# Altium footprint library 无刷驱动-CYT4BB7-V1.0.1.PcbLib: 34 footprints (part 2 of 3)
Each footprint in its own frame and in the unit in brackets; x right, y up, seen from the top. Pads: shape width x height; smd on the part's side, far side on the other; paste and mask are expansions set on the pad; w line width, h text height; cw(c..) or ccw(c..) is an arc to the next point about the centre after c.
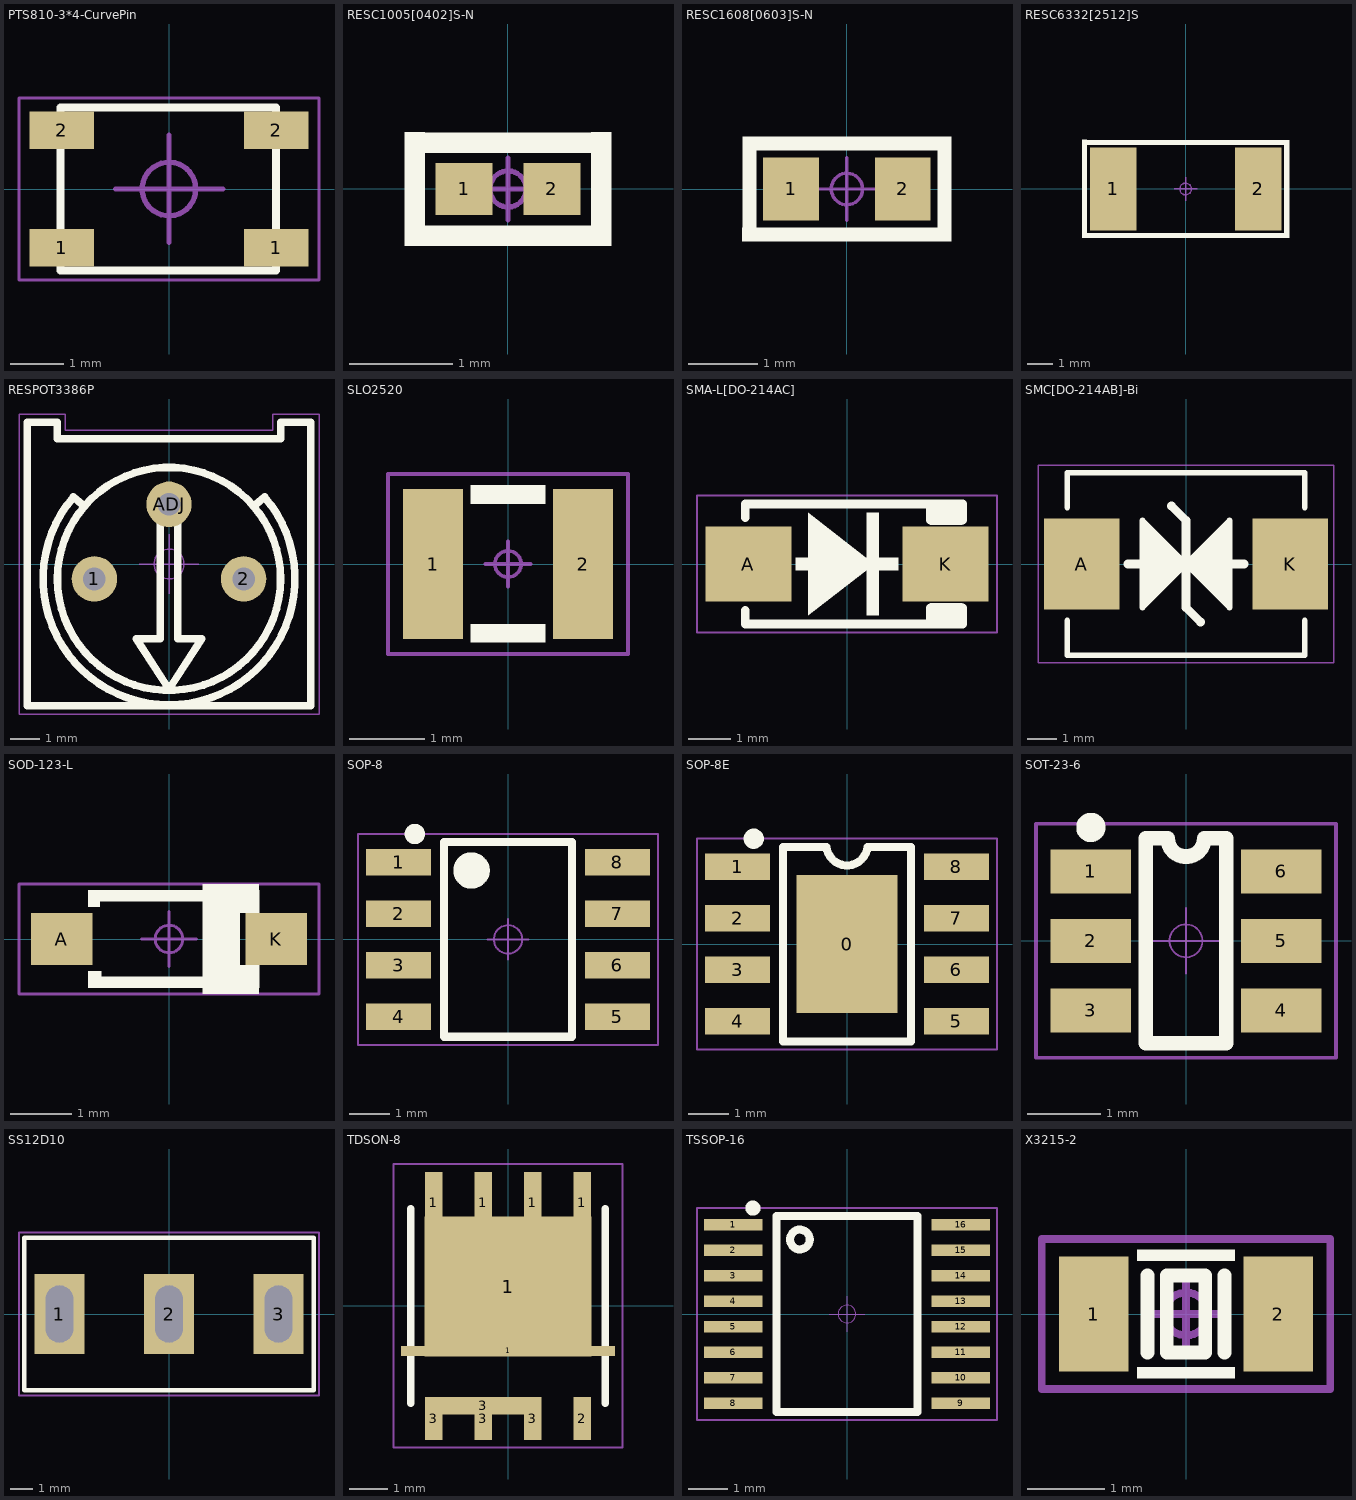
[diagram p1: the footprints below, top view; thin cyan lines are the x and y axes]

## PTS810-3*4-CurvePin [mm] "3*4 白色 汽车遥控器贴片按键 包脚"
height 4.32
pads (4):
  rect 1.2x0.7 smd: 1(-2,-1.1) 1(2,-1.1) 2(-2,1.1) 2(2,1.1)
Top Overlay:
  lines w0.152: -2.025,-1.524 2,-1.524 2,1.524 -2.025,1.524 -2.025,-1.524
Top Designator:
  text ".Designator" at -2.25,-0.226 h1
Top Component Outline:
  lines w0.05: -2.8,-1.7 -2.8,1.7 2.8,1.7 2.8,-1.7 -2.8,-1.7
Top Component Center:
  circle w0.1: c0,0 r0.5
  lines w0.1: -1,0 1,0 ; 0,-1 0,1
3D body "User Library-PTS810.STEP": height 2.5, standoff 0, extent -2.301,-1.6 2.299,1.6

## RESC1005[0402]S-N [mm] "0402贴片电阻 有丝印 2脚 1.00x0.50mm IPC中密度"
height 0.6
pads (2):
  rect 0.55x0.5 smd: 1(-0.425,0) 2(0.425,0)
Top Overlay:
  region: 1,-0.547 1,0.553 0.8,0.553 0.8,-0.547
  rectangle: -1,-0.553 1,-0.353
  region: -1,0.553 -1,-0.547 -0.8,-0.547 -0.8,0.553
  rectangle: -1,0.347 1,0.547
Top Designator:
  text ".Designator" at -2.25,-0.226 h1
Top Component Outline:
  rectangle: -0.95,-0.5 -0.9,0.5
  region: 0.95,0.45 0.95,0.5 -0.95,0.5 -0.95,0.45
  region: 0.95,0.5 0.9,0.5 0.9,-0.5 0.95,-0.5
  region: -0.95,-0.45 -0.95,-0.5 0.95,-0.5 0.95,-0.45
Top Component Center:
  circle w0.05: c0,0 r0.175
  lines w0.05: -0.3,0 0.3,0 ; 0,-0.3 0,0.3
3D body "R0402.STEP": height 0.35, standoff 0, extent -0.5,-0.25 0.5,0.25

## RESC1608[0603]S-N [mm] "0603贴片电阻 有丝印 2脚 1.60x0.80mm IPC中密度"
height 0.6
pads (2):
  rect 0.8x0.9 smd: 1(-0.8,0) 2(0.8,0)
Top Overlay:
  rectangle: -1.502,-0.75 1.498,-0.55
  rectangle: -1.5,0.55 1.5,0.75
  region: -1.499,0.75 -1.499,-0.75 -1.299,-0.75 -1.299,0.75
  region: 1.5,-0.749 1.5,0.751 1.3,0.751 1.3,-0.749
Top Designator:
  text ".Designator" at -2.25,-0.226 h1
Top Component Outline:
  region: -1.45,-0.65 -1.45,-0.7 1.45,-0.7 1.45,-0.65
  region: 1.45,0.7 1.4,0.7 1.4,-0.7 1.45,-0.7
  region: 1.45,0.65 1.45,0.7 -1.45,0.7 -1.45,0.65
  rectangle: -1.45,-0.7 -1.4,0.7
Top Component Center:
  circle w0.05: c0,0 r0.225
  lines w0.05: -0.45,0 0.45,0 ; 0,-0.45 0,0.45
3D body "R0603.STEP": height 0.45, standoff 0, extent -0.8,-0.4 0.8,0.4

## RESC6332[2512]S [mm] "2512贴片电阻 有丝印 2脚 6.30x3.20mm IPC中密度"
height 0.71
pads (2):
  rect 1.8x3.2 smd: 1(-2.8,0) 2(2.8,0)
Top Overlay:
  region: 4,-1.7 -4,-1.7 -4,-1.9 4,-1.9
  region: 4,-1.9 4,1.9 3.8,1.9 3.8,-1.9
  rectangle: -4,1.7 3.95,1.9
  region: -4,1.9 -4,-1.85 -3.8,-1.85 -3.8,1.9
Top Designator:
  text ".Designator" at -2.25,-0.226 h1
Top Component Outline:
  rectangle: -3.95,-1.85 -3.9,1.85
  region: 3.95,1.8 3.95,1.85 -3.95,1.85 -3.95,1.8
  region: 3.95,1.85 3.9,1.85 3.9,-1.85 3.95,-1.85
  region: -3.95,-1.8 -3.95,-1.85 3.95,-1.85 3.95,-1.8
Top Component Center:
  circle w0.05: c0,0 r0.225
  lines w0.05: -0.45,0 0.45,0 ; 0,-0.45 0,0.45
3D body: height 0.61, standoff 0, extent -2.625,-1.675 2.625,1.675
3D body: height 0.71, standoff 0, extent -3.225,-1.675 -2.625,1.675
3D body: height 0.71, standoff 0, extent 2.625,-1.675 3.225,1.675
3D body: height 0.71, standoff 0.61, extent -2.625,-1.675 2.625,1.675

## RESPOT3386P [mil] "3386P型 单圈带柄电位器"
height 62.99
pads (3):
  round 60 hole 30: 1(-98.43,-19.68) 2(98.43,-19.68) ADJ(0,78.74)
Top Overlay:
  circle w10: c0,-19.68 r147.1
  lines w10: -114.45,78.42 -126.12,88.42 ccw(c0,-19.68) 126.12,88.42 114.45,78.42 ; -187.01,-187.01 -187.01,187.01 -147.64,187.01 -147.64,165.35 147.64,165.35 147.64,187.01 187.01,187.01 187.01,-187.01 -187.01,-187.01 ; -43.31,-98.43 0,-165.35 43.31,-98.43 11.81,-98.43 11.81,59.06 -11.81,59.06 -11.81,-98.43 -43.31,-98.43
Top Designator:
  text ".Designator" at -88.59,-8.9 h39.37
Top Component Outline:
  lines w1.97: -197.83,-197.83 -197.83,197.83 -136.81,197.83 -136.81,176.18 -113.19,176.18 77.26,176.18 136.81,176.18 136.81,197.83 197.83,197.83 197.83,-197.83 -197.83,-197.83
Top Component Center:
  circle w1.97: c0,0 r19.68
  lines w1.97: -39.37,0 39.37,0 ; 0,-39.37 0,39.37
3D body "3386F(T)-214.STEP": height 411.85, standoff -233.15, extent -188.5,-196.49 188.5,190.51

## SLO2520 [mm]
height 1.6
pads (2):
  rect 0.8x2 smd: 1(-1,0) 2(1,0)
Top Overlay:
  rectangle: -0.5,0.8 0.5,1.05
  region: 0.5,-0.8 -0.5,-0.8 -0.5,-1.05 0.5,-1.05
Top Designator:
  text ".Designator" at -2.25,-0.226 h1
Top Component Outline:
  lines w0.05: -1.6,-1.2 1.6,-1.2 1.6,1.2 -1.6,1.2 -1.6,-1.2
Top Component Center:
  circle w0.05: c0,0 r0.175
  lines w0.05: -0.3,0 0.3,0 ; 0,-0.3 0,0.3
3D body: height 1.2, standoff 0, extent -1.2,-1 1.2,1
3D body: height 1.1, standoff 0, extent 1,-0.875 1.25,0.875
3D body: height 1.1, standoff 0, extent -1.25,-0.875 -1,0.875

## SMA-L[DO-214AC] [mm] "SMA 二极管 贴片 IPC高密度"
height 2.31
pads (2):
  rect 2x1.75 smd: A(-2.3,0) K(2.3,0)
Top Overlay:
  rectangle: -1.2,-0.149 1.2,0.151
  rectangle: 0.451,-1.2 0.751,1.2
  rectangle: 1.941,0.914 2.7,1.395
  rectangle: 1.941,-1.4 2.7,-0.914
  region: -0.902,1.2 -0.902,-1.2 0.635,0
  lines w0.2: -2.375,-1.075 -2.375,-1.4 2.7,-1.4 2.7,-1.016 ; -2.375,1.075 -2.375,1.4 2.7,1.4 2.7,1.016 ; 1.941,-1.395 1.941,-1.016 ; 1.941,1.016 1.941,1.395
Top Designator:
  text ".Designator" at -2.25,-0.226 h1
Top Component Outline:
  lines w0.05: -3.5,-1.6 -3.5,1.6 3.5,1.6 3.5,-1.6 -3.5,-1.6
Top Component Center:
  circle w0.05: c0,0 r0.225
  lines w0.05: -0.45,0 0.45,0 ; 0,-0.45 0,0.45
3D body "SMA(DO-214AC).STEP": height 2.3, standoff 0, extent -2.905,-1.46 2.905,1.46

## SMC[DO-214AB]-Bi [mm] "Molded Diode, 2-Leads, Body 7.94x5.90mm, IPC Medium Density"
height 2.41
pads (2):
  rect 2.6x3.15 smd: A(-3.6,0) K(3.6,0)
Top Overlay:
  region: 0,0 1.5,1.5 1.5,-1.5
  region: 0,0 -1.5,-1.5 -1.5,1.5
  lines w0.2: -4.1,-1.95 -4.1,-3.15 4.1,-3.15 4.1,-1.95 ; -4.1,1.95 -4.1,3.15 4.1,3.15 4.1,1.95 ; 0,0 1.5,1.5 1.5,-1.5 0,0 ; 0,0 -1.5,-1.5 -1.5,1.5 0,0
  lines w0.3: -2,0 2,0 ; -0.5,2 0,1.5 0,-1.5 0.5,-2
Top Designator:
  text ".Designator" at -2.25,-0.226 h1
Top Component Outline:
  lines w0.05: -5.1,-3.4 -5.1,3.4 5.1,3.4 5.1,-3.4 -5.1,-3.4
Top Component Center:
  circle w0.05: c0,0 r0.225
  lines w0.05: -0.45,0 0.45,0 ; 0,-0.45 0,0.45
3D body "SMC(DO-214AB).STEP": height 2.3, standoff 0, extent -4.175,-3.11 4.175,3.11

## SOD-123-L [mm] "SOD Diode;2.70mm W X 1.60mm L X 1.35mm H body"
height 1.35
pads (2):
  rect 1x0.85 smd: A(-1.75,0) K(1.75,0)
Top Overlay:
  rectangle: 0.55,-0.802 1.16,0.798
  rectangle: 0.548,-0.9 1.473,-0.697
  rectangle: -1.143,0.612 0.584,0.8
  rectangle: 0.548,0.697 1.473,0.9
  rectangle: -1.143,-0.8 0.584,-0.612
  rectangle: 1.15,0.425 1.475,0.8
  rectangle: 1.15,-0.8 1.475,-0.425
  region: -1.1,-0.525 -1.325,-0.525 -1.325,-0.8 -1.1,-0.8
  region: -1.125,0.8 -1.325,0.8 -1.325,0.525 -1.125,0.525
Top Designator:
  text ".Designator" at -2.25,-0.226 h1
Top Component Outline:
  lines w0.05: -2.45,-0.9 -2.45,0.9 2.45,0.9 2.45,-0.9 -2.45,-0.9
Top Component Center:
  circle w0.05: c0,0 r0.225
  lines w0.05: -0.45,0 0.45,0 ; 0,-0.45 0,0.45
3D body "SOD-123.STEP": height 1.2, standoff 0, extent -1.85,-0.8 1.85,0.8

## SOP-8 [mm] "SOIC,1.27mm pitch;8 pin,3.90mm W X 4.88mm L X 1.73mm H body"
height 1.6
pads (8):
  rect 1.6x0.65 smd: 1(-2.7,1.905) 2(-2.7,0.635) 3(-2.7,-0.635) 4(-2.7,-1.905) 5(2.7,-1.905) 6(2.7,-0.635) 7(2.7,0.635) 8(2.7,1.905)
Top Overlay:
  circle w0.5: c-0.9,1.7 r0.2
  circle w0.25: c-2.3,2.6 r0.125
  lines w0.2: -1.575,-2.4 1.575,-2.4 1.575,2.4 -1.575,2.4 -1.575,-2.4
Top Designator:
  text ".Designator" at -2.25,-0.114 h1
Top Component Outline:
  lines w0.05: -3.7,-2.6 -3.7,2.6 3.7,2.6 3.7,-2.6 -3.7,-2.6
Top Component Center:
  circle w0.05: c0,0 r0.35
  lines w0.05: -0.5,0 0.5,0 ; 0,-0.5 0,0.5
3D body "SOIC8.STEP": height 1.75, standoff 0, extent -3.105,-2.45 3.105,2.45

## SOP-8E [mm] "SOIC,1.27mm pitch;8 pin,3.90mm W X 4.88mm L X 1.73mm H body"
height 1.6
pads (9):
  rect 2.5x3.4 smd: 0(0,0)
  rect 1.6x0.65 smd: 1(-2.7,1.905) 2(-2.7,0.635) 3(-2.7,-0.635) 4(-2.7,-1.905) 5(2.7,-1.905) 6(2.7,-0.635) 7(2.7,0.635) 8(2.7,1.905)
Top Overlay:
  circle w0.25: c-2.3,2.6 r0.125
  lines w0.2: -0.508,2.4 -1.575,2.4 -1.575,-2.4 1.575,-2.4 1.575,2.4 0.508,2.4 ; -0.505,2.399 ccw(c0,2.45) 0.505,2.399
Top Designator:
  text ".Designator" at -2.25,-0.114 h1
Top Component Outline:
  lines w0.05: -3.7,-2.6 3.7,-2.6 3.7,2.6 -3.7,2.6 -3.7,-2.6
Top Component Center:
  circle w0.05: c0,0 r0.35
  lines w0.05: -0.5,0 0.5,0 ; 0,-0.5 0,0.5
3D body "SOIC8.STEP": height 1.75, standoff 0, extent -3.105,-2.45 3.105,2.45

## SOT-23-6 [mm] "SOT23, 6-Leads, Body 2.90x2.80mm, Pitch 0.95mm, IPC Medium Density"
height 1.45
pads (6):
  rect 1.1x0.6 smd: 1(-1.3,0.95) 2(-1.3,0) 3(-1.3,-0.95) 4(1.3,-0.95) 5(1.3,0) 6(1.3,0.95)
Top Overlay:
  circle w0.25: c-1.3,1.55 r0.075
  lines w0.2: -0.25,1.4 -0.55,1.4 -0.55,-1.4 0.55,-1.4 0.55,1.4 0.25,1.4
  lines w0.203: -0.25,1.4 ccw(c0,1.4) 0.25,1.4
Top Designator:
  text ".Designator" at -2.25,-0.164 h1
Top Component Outline:
  lines w0.05: -2.05,-1.6 2.05,-1.6 2.05,1.6 -2.05,1.6 -2.05,-1.6
Top Component Center:
  circle w0.025: c0,0 r0.225
  lines w0.025: -0.45,0 0.45,0 ; 0,-0.45 0,0.45
3D body "SOT23-6.STEP": height 1.55, standoff 0, extent -1.504,-1.5 1.504,1.5

## SS12D10 [mm] "拨动开关，直脚，脚距4.8"
height 1.6
pads (3):
  rect 2.2x3.5 hole 1.2 slot 2.5 at 90 deg mask+0.07: 1(-4.8,0) 2(0,0) 3(4.8,0)
Top Overlay:
  lines w0.2: -6.35,-3.35 6.35,-3.35 6.35,3.35 -6.35,3.35 -6.35,-3.3
Top Designator:
  text ".Designator" at -2.25,-0.138 h1
Top Component Outline:
  lines w0.1: -6.575,-3.575 -6.575,3.575 6.575,3.575 6.575,-3.575 -6.575,-3.575
Top Component Center:
  circle w0.1: c0,0 r0.5
  lines w0.1: -1,0 1,0 ; 0,-1 0,1
3D body "ms-13aap1.stp": height 12.5, standoff -5.4, extent -6.4,-3.3 6.35,3.8

## TDSON-8 [mm]
height 1.6
pads (11):
  rect 0.45x1.6 smd: 1(-1.905,2.65) 1(-0.635,2.65) 1(0.635,2.65) 1(1.905,2.65)
  rect 5.5x0.25 smd: 1(0,-1.16)
  rect 4.3x3.605 smd: 1(0,0.495)
  rect 0.45x1.1 smd: 2(1.905,-2.9) 3(-1.905,-2.9) 3(-0.635,-2.9) 3(0.635,-2.9)
  rect 2.99x0.45 smd: 3(-0.635,-2.575)
Top Overlay:
  lines w0.2: -2.5,-2.5 -2.5,2.5 ; 2.5,-2.5 2.5,2.5
Top Designator:
  text ".Designator" at -2.25,-0.226 h1
Top Component Outline:
  lines w0.05: -2.95,-3.65 -2.95,3.65 2.95,3.65 2.95,-3.65 -2.95,-3.65
Top Component Center:
  circle w0.025: c0,0 r0.225
  lines w0.025: -0.45,0 0.45,0 ; 0,-0.45 0,0.45
3D body "User Library-SON5x6.STEP": height 1, standoff 0, extent -2.45,-3 2.45,3

## TSSOP-16 [mm] "TSSOP 16pin 0.65mm间距"
height 1.6
pads (16):
  rect 1.5x0.3 smd mask+0.07: 1(-2.9,2.275) 2(-2.9,1.625) 3(-2.9,0.975) 4(-2.9,0.325) 5(-2.9,-0.325) 6(-2.9,-0.975) 7(-2.9,-1.625) 8(-2.9,-2.275) 9(2.9,-2.275) 10(2.9,-1.625) 11(2.9,-0.975) 12(2.9,-0.325) 13(2.9,0.325) 14(2.9,0.975) 15(2.9,1.625) 16(2.9,2.275)
Top Overlay:
  circle w0.203: c-1.2,1.9 r0.251
  circle w0.203: c-2.4,2.7 r0.092
  lines w0.2: -1.8,-2.5 -1.8,2.5 1.8,2.5 1.8,-2.5 -1.8,-2.5
Top Designator:
  text ".Designator" at -2.25,-0.142 h1
Top Component Outline:
  lines w0.05: -3.825,-2.7 -3.825,2.7 3.825,2.7 3.825,-2.7 -3.825,-2.7
Top Component Center:
  circle w0.025: c0,0 r0.225
  lines w0.025: -0.45,0 0.45,0 ; 0,-0.45 0,0.45
3D body "User Library-TSSOP-16-1.step": height 1.1, standoff 0, extent -3.2,-2.5 3.2,2.5

## X3215-2 [mm] "3215 2脚 无源晶振"
height 1.6
pads (2):
  rect 0.9x1.5 smd: 1(-1.2,0) 2(1.2,0)
Top Overlay:
  rectangle: -0.635,0.686 0.635,0.838
  region: 0.635,-0.686 -0.635,-0.686 -0.635,-0.838 0.635,-0.838
  lines w0.18: -0.5,-0.5 -0.5,0.5 ; 0.5,-0.5 0.5,0.5 ; -0.25,-0.5 0.25,-0.5 0.25,0.5 -0.25,0.5 -0.25,-0.5
Top Designator:
  text ".Designator" at -2.25,-0.226 h1
Top Component Outline:
  lines w0.1: -1.875,-0.975 -1.875,0.975 1.875,0.975 1.875,-0.975 -1.875,-0.975
Top Component Center:
  circle w0.1: c0,0 r0.28
  lines w0.1: -0.5,0 0.5,0 ; 0,-0.5 0,0.5
3D body "User Library-NX3215SA.step": height 0.78, standoff 0, extent -1.507,-0.764 1.507,0.75